# Altium schematic symbol library Yageo.SchLib: 231 symbols (part 1 of 3)
Pins are listed as number, name and electrical type; pins without a type are passive.

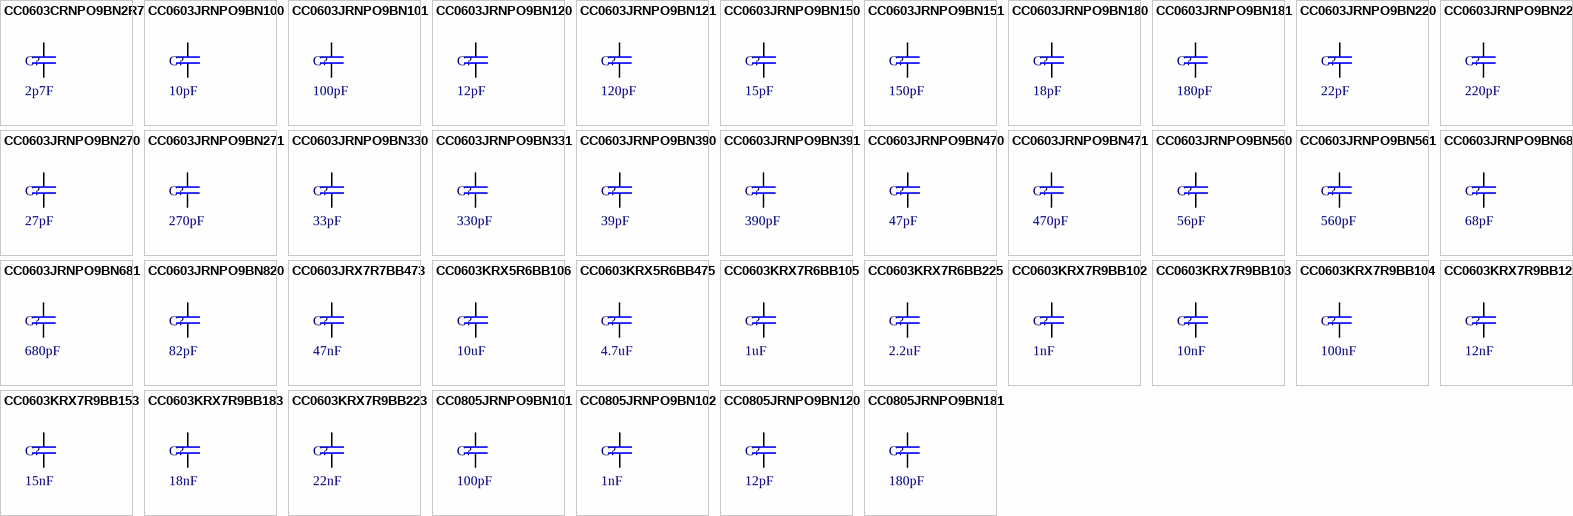
[diagram p0: symbols CC0603CRNPO9BN2R7 to CC0805JRNPO9BN181]

## CC0603CRNPO9BN2R7
designator C?, comment 2p7F
CAP 2.7pF (2p7F) SM0603 NPO 50V YAGEO CC2; Manufacturer Part Number: CC0603CRNPO9BN2R7; Tolerance (%): 10; Voltage Rating (Volts): 50; Category: Capacitor; Manufacturer: Yageo; Package: 0603; Value: 2p7F; Supplier Part Number 1: 721890; Supplier 1: Farnell; ComponentLink1URL: http://www.yageo.com; ComponentLink1Description: Manufacturer Website; Supplier 2: Digi-Key
footprint CAP_SM0603_YAGEOCC2_N (Capacitor, Yageo CC Class2, SM0603, IPC Medium Density)
pins: 1, 2

## CC0603JRNPO9BN100
designator C?, comment 10pF
CAP 10pF SM0603 NPO 50V YAGEO CC2; Manufacturer Part Number: CC0603JRNPO9BN100; Tolerance (%): 5; Voltage Rating (Volts): 50; Category: Capacitor; Manufacturer: Yageo; Package: 0603; Value: 10pF; Supplier Part Number 1: 721967; Supplier 1: Farnell; ComponentLink1URL: http://www.yageo.com; ComponentLink1Description: Manufacturer Website; Supplier 2: Digi-Key; Supplier Part Number 2: 311-1058-1-ND
footprint CAP_SM0603_YAGEOCC2_N (Capacitor, Yageo CC Class2, SM0603, IPC Medium Density)
pins: 1, 2

## CC0603JRNPO9BN101
designator C?, comment 100pF
CAP 100pF SM0603 NPO 50V YAGEO CC2; Manufacturer Part Number: CC0603JRNPO9BN101; Tolerance (%): 5; Voltage Rating (Volts): 50; Category: Capacitor; Manufacturer: Yageo; Package: 0603; Value: 100pF; Supplier Part Number 1: 722080; Supplier 1: Farnell; ComponentLink1URL: http://www.yageo.com; ComponentLink1Description: Manufacturer Website; Supplier 2: Digi-Key; Supplier Part Number 2: 311-1069-1-ND
footprint CAP_SM0603_YAGEOCC2_N (Capacitor, Yageo CC Class2, SM0603, IPC Medium Density)
pins: 1, 2

## CC0603JRNPO9BN120
designator C?, comment 12pF
CAP 12pF SM0603 NPO 50V YAGEO CC2; Manufacturer Part Number: CC0603JRNPO9BN120; Tolerance (%): 5; Voltage Rating (Volts): 50; Category: Capacitor; Manufacturer: Yageo; Package: 0603; Value: 12pF; Supplier Part Number 1: 721979; Supplier 1: Farnell; ComponentLink1URL: http://www.yageo.com; ComponentLink1Description: Manufacturer Website; Supplier 2: Digi-Key; Supplier Part Number 2: 311-1059-1-ND; Datasheet: https://datasheet.lcsc.com/lcsc/2304140030_YAGEO-CC0603JRNPO9BN120_C107034.pdf
footprint CAP_SM0603_YAGEOCC2_N (Capacitor, Yageo CC Class2, SM0603, IPC Medium Density)
pins: 1, 2

## CC0603JRNPO9BN121
designator C?, comment 120pF
CAP 120pF SM0603 NPO 50V YAGEO CC2; Manufacturer Part Number: CC0603JRNPO9BN121; Tolerance (%): 5; Voltage Rating (Volts): 50; Category: Capacitor; Manufacturer: Yageo; Package: 0603; Value: 120pF; Supplier Part Number 1: 722091; Supplier 1: Farnell; ComponentLink1URL: http://www.yageo.com; ComponentLink1Description: Manufacturer Website; Supplier 2: Digi-Key; Supplier Part Number 2: 311-1070-1-ND
footprint CAP_SM0603_YAGEOCC2_N (Capacitor, Yageo CC Class2, SM0603, IPC Medium Density)
pins: 1, 2

## CC0603JRNPO9BN150
designator C?, comment 15pF
CAP 15pF SM0603 NPO 50V YAGEO CC2; Manufacturer Part Number: CC0603JRNPO9BN150; Tolerance (%): 5; Voltage Rating (Volts): 50; Category: Capacitor; Manufacturer: Yageo; Package: 0603; Value: 15pF; Supplier Part Number 1: 721980; Supplier 1: Farnell; ComponentLink1URL: http://www.yageo.com; ComponentLink1Description: Manufacturer Website; Supplier 2: Digi-Key; Supplier Part Number 2: 311-1060-1-ND
footprint CAP_SM0603_YAGEOCC2_N (Capacitor, Yageo CC Class2, SM0603, IPC Medium Density)
pins: 1, 2

## CC0603JRNPO9BN151
designator C?, comment 150pF
CAP 150pF SM0603 NPO 50V YAGEO CC2; Manufacturer Part Number: CC0603JRNPO9BN151; Tolerance (%): 5; Voltage Rating (Volts): 50; Category: Capacitor; Manufacturer: Yageo; Package: 0603; Value: 150pF; Supplier Part Number 1: 722108; Supplier 1: Farnell; ComponentLink1URL: http://www.yageo.com; ComponentLink1Description: Manufacturer Website; Supplier 2: Digi-Key; Supplier Part Number 2: 311-1071-1-ND
footprint CAP_SM0603_YAGEOCC2_N (Capacitor, Yageo CC Class2, SM0603, IPC Medium Density)
pins: 1, 2

## CC0603JRNPO9BN180
designator C?, comment 18pF
CAP 18pF SM0603 NPO 50V YAGEO CC2; Manufacturer Part Number: CC0603JRNPO9BN180; Tolerance (%): 5; Voltage Rating (Volts): 50; Category: Capacitor; Manufacturer: Yageo; Package: 0603; Value: 18pF; Supplier Part Number 1: 721992; Supplier 1: Farnell; ComponentLink1URL: http://www.yageo.com; ComponentLink1Description: Manufacturer Website; Supplier 2: Digi-Key; Supplier Part Number 2: 311-1061-1-ND
footprint CAP_SM0603_YAGEOCC2_N (Capacitor, Yageo CC Class2, SM0603, IPC Medium Density)
pins: 1, 2

## CC0603JRNPO9BN181
designator C?, comment 180pF
CAP 180pF SM0603 NPO 50V YAGEO CC2; Manufacturer Part Number: CC0603JRNPO9BN181; Tolerance (%): 5; Voltage Rating (Volts): 50; Category: Capacitor; Manufacturer: Yageo; Package: 0603; Value: 180pF; Supplier Part Number 1: 3019494; Supplier 1: Farnell; ComponentLink1URL: http://www.yageo.com; ComponentLink1Description: Manufacturer Website; Supplier 2: Digi-Key; Supplier Part Number 2: 311-1072-1-ND
footprint CAP_SM0603_YAGEOCC2_N (Capacitor, Yageo CC Class2, SM0603, IPC Medium Density)
pins: 1, 2

## CC0603JRNPO9BN220
designator C?, comment 22pF
CAP 22pF SM0603 NPO 50V YAGEO CC2; Manufacturer Part Number: CC0603JRNPO9BN220; Tolerance (%): 5; Voltage Rating (Volts): 50; Category: Capacitor; Manufacturer: Yageo; Package: 0603; Value: 22pF; Supplier Part Number 1: 722005; Supplier 1: Farnell; ComponentLink1URL: http://www.yageo.com; ComponentLink1Description: Manufacturer Website; Supplier 2: Digi-Key; Supplier Part Number 2: 311-1062-1-ND
footprint CAP_SM0603_YAGEOCC2_N (Capacitor, Yageo CC Class2, SM0603, IPC Medium Density)
pins: 1, 2

## CC0603JRNPO9BN221
designator C?, comment 220pF
CAP 220pF SM0603 NPO 50V YAGEO CC2; Manufacturer Part Number: CC0603JRNPO9BN221; Tolerance (%): 5; Voltage Rating (Volts): 50; Category: Capacitor; Manufacturer: Yageo; Package: 0603; Value: 220pF; Supplier Part Number 1: 430948; Supplier 1: Farnell; ComponentLink1URL: http://www.yageo.com; ComponentLink1Description: Manufacturer Website; Supplier 2: Digi-Key; Supplier Part Number 2: 311-1073-1-ND
footprint CAP_SM0603_YAGEOCC2_N (Capacitor, Yageo CC Class2, SM0603, IPC Medium Density)
pins: 1, 2

## CC0603JRNPO9BN270
designator C?, comment 27pF
CAP 27pF SM0603 NPO 50V YAGEO CC2; Manufacturer Part Number: CC0603JRNPO9BN270; Tolerance (%): 5; Voltage Rating (Volts): 50; Category: Capacitor; Manufacturer: Yageo; Package: 0603; Value: 27pF; Supplier Part Number 1: 722017; Supplier 1: Farnell; ComponentLink1URL: http://www.yageo.com; ComponentLink1Description: Manufacturer Website; Supplier 2: Digi-Key; Supplier Part Number 2: 311-1063-1-ND
footprint CAP_SM0603_YAGEOCC2_N (Capacitor, Yageo CC Class2, SM0603, IPC Medium Density)
pins: 1, 2

## CC0603JRNPO9BN271
designator C?, comment 270pF
CAP 270pF SM0603 NPO 50V YAGEO CC2; Manufacturer Part Number: CC0603JRNPO9BN271; Tolerance (%): 5; Voltage Rating (Volts): 50; Category: Capacitor; Manufacturer: Yageo; Package: 0603; Value: 270pF; Supplier Part Number 1: 3019500; Supplier 1: Farnell; ComponentLink1URL: http://www.yageo.com; ComponentLink1Description: Manufacturer Website; Supplier 2: Digi-Key; Supplier Part Number 2: 311-1074-1-ND
footprint CAP_SM0603_YAGEOCC2_N (Capacitor, Yageo CC Class2, SM0603, IPC Medium Density)
pins: 1, 2

## CC0603JRNPO9BN330
designator C?, comment 33pF
CAP 33pF SM0603 NPO 50V YAGEO CC2; Manufacturer Part Number: CC0603JRNPO9BN330; Tolerance (%): 5; Voltage Rating (Volts): 50; Category: Capacitor; Manufacturer: Yageo; Package: 0603; Value: 33pF; Supplier Part Number 1: 722029; Supplier 1: Farnell; ComponentLink1URL: http://www.yageo.com; ComponentLink1Description: Manufacturer Website; Supplier 2: Digi-Key; Supplier Part Number 2: 311-1064-1-ND
footprint CAP_SM0603_YAGEOCC2_N (Capacitor, Yageo CC Class2, SM0603, IPC Medium Density)
pins: 1, 2

## CC0603JRNPO9BN331
designator C?, comment 330pF
CAP 330pF SM0603 NPO 50V YAGEO CC2; Manufacturer Part Number: CC0603JRNPO9BN331; Tolerance (%): 5; Voltage Rating (Volts): 50; Category: Capacitor; Manufacturer: Yageo; Package: 0603; Value: 330pF; Supplier Part Number 1: 430973; Supplier 1: Farnell; ComponentLink1URL: http://www.yageo.com; ComponentLink1Description: Manufacturer Website; Supplier 2: Digi-Key; Supplier Part Number 2: 311-1075-1-ND
footprint CAP_SM0603_YAGEOCC2_N (Capacitor, Yageo CC Class2, SM0603, IPC Medium Density)
pins: 1, 2

## CC0603JRNPO9BN390
designator C?, comment 39pF
CAP 39pF SM0603 NPO 50V YAGEO CC2; Manufacturer Part Number: CC0603JRNPO9BN390; Tolerance (%): 5; Voltage Rating (Volts): 50; Category: Capacitor; Manufacturer: Yageo; Package: 0603; Value: 39pF; Supplier Part Number 1: 722030; Supplier 1: Farnell; ComponentLink1URL: http://www.yageo.com; ComponentLink1Description: Manufacturer Website; Supplier 2: Digi-Key
footprint CAP_SM0603_YAGEOCC2_N (Capacitor, Yageo CC Class2, SM0603, IPC Medium Density)
pins: 1, 2

## CC0603JRNPO9BN391
designator C?, comment 390pF
CAP 390pF SM0603 NPO 50V YAGEO CC2; Manufacturer Part Number: CC0603JRNPO9BN391; Tolerance (%): 5; Voltage Rating (Volts): 50; Category: Capacitor; Manufacturer: Yageo; Package: 0603; Value: 390pF; Supplier Part Number 1: 3019512; Supplier 1: Farnell; ComponentLink1URL: http://www.yageo.com; ComponentLink1Description: Manufacturer Website; Supplier 2: Digi-Key; Supplier Part Number 2: 311-1076-1-ND
footprint CAP_SM0603_YAGEOCC2_N (Capacitor, Yageo CC Class2, SM0603, IPC Medium Density)
pins: 1, 2

## CC0603JRNPO9BN470
designator C?, comment 47pF
CAP 47pF SM0603 NPO 50V YAGEO CC2; Manufacturer Part Number: CC0603JRNPO9BN470; Tolerance (%): 5; Voltage Rating (Volts): 50; Category: Capacitor; Manufacturer: Yageo; Package: 0603; Value: 47pF; Supplier Part Number 1: 722042; Supplier 1: Farnell; ComponentLink1URL: http://www.yageo.com; ComponentLink1Description: Manufacturer Website; Supplier 2: Digi-Key; Supplier Part Number 2: 311-1065-1-ND
footprint CAP_SM0603_YAGEOCC2_N (Capacitor, Yageo CC Class2, SM0603, IPC Medium Density)
pins: 1, 2

## CC0603JRNPO9BN471
designator C?, comment 470pF
CAP 470pF SM0603 NPO 50V YAGEO CC2; Manufacturer Part Number: CC0603JRNPO9BN471; Tolerance (%): 5; Voltage Rating (Volts): 50; Category: Capacitor; Manufacturer: Yageo; Package: 0603; Value: 470pF; Supplier Part Number 1: 430985; Supplier 1: Farnell; ComponentLink1URL: http://www.yageo.com; ComponentLink1Description: Manufacturer Website; Supplier 2: Digi-Key; Supplier Part Number 2: 311-1520-1-ND
footprint CAP_SM0603_YAGEOCC2_N (Capacitor, Yageo CC Class2, SM0603, IPC Medium Density)
pins: 1, 2

## CC0603JRNPO9BN560
designator C?, comment 56pF
CAP 56pF SM0603 NPO 50V YAGEO CC2; Manufacturer Part Number: CC0603JRNPO9BN560; Tolerance (%): 5; Voltage Rating (Volts): 50; Category: Capacitor; Manufacturer: Yageo; Package: 0603; Value: 56pF; Supplier Part Number 1: 722054; Supplier 1: Farnell; ComponentLink1URL: http://www.yageo.com; ComponentLink1Description: Manufacturer Website; Supplier 2: Digi-Key; Supplier Part Number 2: 311-1066-1-ND
footprint CAP_SM0603_YAGEOCC2_N (Capacitor, Yageo CC Class2, SM0603, IPC Medium Density)
pins: 1, 2

## CC0603JRNPO9BN561
designator C?, comment 560pF
CAP 560pF SM0603 NPO 50V YAGEO CC2; Manufacturer Part Number: CC0603JRNPO9BN561; Tolerance (%): 5; Voltage Rating (Volts): 50; Category: Capacitor; Manufacturer: Yageo; Package: 0603; Value: 560pF; Supplier Part Number 1: 3019524; Supplier 1: Farnell; ComponentLink1URL: http://www.yageo.com; ComponentLink1Description: Manufacturer Website; Supplier 2: Digi-Key
footprint CAP_SM0603_YAGEOCC2_N (Capacitor, Yageo CC Class2, SM0603, IPC Medium Density)
pins: 1, 2

## CC0603JRNPO9BN680
designator C?, comment 68pF
CAP 68pF SM0603 NPO 50V YAGEO CC2; Manufacturer Part Number: CC0603JRNPO9BN680; Tolerance (%): 5; Voltage Rating (Volts): 50; Category: Capacitor; Manufacturer: Yageo; Package: 0603; Value: 68pF; Supplier Part Number 1: 722066; Supplier 1: Farnell; ComponentLink1URL: http://www.yageo.com; ComponentLink1Description: Manufacturer Website; Supplier 2: Digi-Key; Supplier Part Number 2: 311-1067-1-ND
footprint CAP_SM0603_YAGEOCC2_N (Capacitor, Yageo CC Class2, SM0603, IPC Medium Density)
pins: 1, 2

## CC0603JRNPO9BN681
designator C?, comment 680pF
CAP 680pF SM0603 NPO 50V YAGEO CC2; Manufacturer Part Number: CC0603JRNPO9BN681; Tolerance (%): 5; Voltage Rating (Volts): 50; Category: Capacitor; Manufacturer: Yageo; Package: 0603; Value: 680pF; Supplier Part Number 1: 430997; Supplier 1: Farnell; ComponentLink1URL: http://www.yageo.com; ComponentLink1Description: Manufacturer Website; Supplier 2: Digi-Key; Supplier Part Number 2: 311-1425-1-ND
footprint CAP_SM0603_YAGEOCC2_N (Capacitor, Yageo CC Class2, SM0603, IPC Medium Density)
pins: 1, 2

## CC0603JRNPO9BN820
designator C?, comment 82pF
CAP 82pF SM0603 NPO 50V YAGEO CC2; Manufacturer Part Number: CC0603JRNPO9BN820; Tolerance (%): 5; Voltage Rating (Volts): 50; Category: Capacitor; Manufacturer: Yageo; Package: 0603; Value: 82pF; Supplier Part Number 1: 722078; Supplier 1: Farnell; ComponentLink1URL: http://www.yageo.com; ComponentLink1Description: Manufacturer Website; Supplier 2: Digi-Key; Supplier Part Number 2: 311-1068-1-ND
footprint CAP_SM0603_YAGEOCC2_N (Capacitor, Yageo CC Class2, SM0603, IPC Medium Density)
pins: 1, 2

## CC0603JRX7R7BB473
designator C?, comment 47nF
CAP 47nF SM0603 X7R 16V YAGEO; Manufacturer Part Number: CC0603JRX7R7BB473; Tolerance: 5; Category: Capacitor; Manufacturer: Yageo; Package: 0603; Value: 47nF; ComponentLink1Description: Manufacturer Website; ComponentLink1URL: http://www.yageo.com
footprint CAP_SM0603_YAGEOCC2_N (Capacitor, Yageo CC Class2, SM0603, IPC Medium Density)
pins: 1, 2

## CC0603KRX5R6BB106
designator C?, comment 10uF
CAP 10uF SM0603 X5R 10V YAGEO; Manufacturer Part Number: CC0603KRX5R6BB106; Tolerance: 10; Category: Capacitor; Manufacturer: Yageo; Package: 0603; Value: 10uF; ComponentLink1Description: Manufacturer Website; ComponentLink1URL: http://www.yageo.com
footprint CAP_SM0603_YAGEOCC2_N (Capacitor, Yageo CC Class2, SM0603, IPC Medium Density)
pins: 1, 2

## CC0603KRX5R6BB475
designator C?, comment 4.7uF
CAP 4.7uF SM0603 X7R 16V YAGEO; Manufacturer Part Number: CC0603JRX7R7BB473; Tolerance: 10; Category: Capacitor; Manufacturer: Yageo; Package: 0603; Value: 4.7uF; ComponentLink1Description: Manufacturer Website; ComponentLink1URL: http://www.yageo.com
footprint CAP_SM0603_YAGEOCC2_N (Capacitor, Yageo CC Class2, SM0603, IPC Medium Density)
pins: 1, 2

## CC0603KRX7R6BB105
designator C?, comment 1uF
CAP 1uF SM0603 X7R 10V YAGEO CC2; Manufacturer Part Number: CC0603KRX7R6BB105; Tolerance (%): 5; Voltage Rating (Volts): 50; Category: Capacitor; Manufacturer: Yageo; Package: 0603; Value: 1uF; ComponentLink1URL: http://www.yageo.com; ComponentLink1Description: Manufacturer Website; Datasheet: https://datasheet.lcsc.com/lcsc/2304140030_YAGEO-CC0603KRX7R6BB105_C113807.pdf
footprint CAP_SM0603_YAGEOCC2_N (Capacitor, Yageo CC Class2, SM0603, IPC Medium Density)
pins: 1, 2

## CC0603KRX7R6BB225
designator C?, comment 2.2uF
CAP 2.2uF (2u2F) SM0603 X7R 10V YAGEO CC2; Manufacturer Part Number: CC0603KRX7R6BB225; Tolerance (%): 10; Category: Capacitor; Manufacturer: Yageo; Package: 0603; Value: 2.2uF; ComponentLink1URL: http://www.yageo.com; ComponentLink1Description: Manufacturer Website; Voltage Rating (Volts): 10; Datasheet: https://datasheet.lcsc.com/lcsc/2004231434_YAGEO-CC0603KRX7R6BB225_C513691.pdf
footprint CAP_SM0603_YAGEOCC2_N (Capacitor, Yageo CC Class2, SM0603, IPC Medium Density)
pins: 1, 2

## CC0603KRX7R9BB102
designator C?, comment 1nF
CAP 1nF SM0603 X7R 50V YAGEO CC2; Manufacturer Part Number: CC0603KRX7R9BB102; Tolerance (%): 10; Voltage Rating (Volts): 50; Category: Capacitor; Manufacturer: Yageo; Package: 0603; Value: 1nF; Supplier Part Number 1: 722170; Supplier 1: Farnell; ComponentLink1URL: http://www.yageo.com; ComponentLink1Description: Manufacturer Website; Supplier 2: Digi-Key; Supplier Part Number 2: 311-1080-1-ND
footprint CAP_SM0603_YAGEOCC2_N (Capacitor, Yageo CC Class2, SM0603, IPC Medium Density)
pins: 1, 2

## CC0603KRX7R9BB103
designator C?, comment 10nF
CAP 10nF SM0603 X7R 50V YAGEO CC2; Manufacturer Part Number: CC0603KRX7R9BB103; Tolerance (%): 10; Voltage Rating (Volts): 50; Category: Capacitor; Manufacturer: Yageo; Package: 0603; Value: 10nF; Supplier Part Number 1: 722236; Supplier 1: Farnell; ComponentLink1URL: http://www.yageo.com; ComponentLink1Description: Manufacturer Website; Supplier 2: Digi-Key; Supplier Part Number 2: 311-1085-1-ND
footprint CAP_SM0603_YAGEOCC2_N (Capacitor, Yageo CC Class2, SM0603, IPC Medium Density)
pins: 1, 2

## CC0603KRX7R9BB104
designator C?, comment 100nF
CAP 100nF SM0603 X7R 50V YAGEO CC2; Manufacturer Part Number: CC0603KRX7R9BB104; Tolerance (%): 10; Voltage Rating (Volts): 50; Category: Capacitor; Manufacturer: Yageo; Package: 0603; Value: 100nF; Supplier Part Number 1: 1362556; Supplier 1: Farnell; ComponentLink1URL: http://www.yageo.com; ComponentLink1Description: Manufacturer Website; Supplier 2: Digi-Key; Supplier Part Number 2: 311-1344-1-ND; Datasheet: https://datasheet.lcsc.com/lcsc/2211101700_YAGEO-CC0603KRX7R9BB104_C14663.pdf
footprint CAP_SM0603_YAGEOCC2_N (Capacitor, Yageo CC Class2, SM0603, IPC Medium Density)
pins: 1, 2

## CC0603KRX7R9BB123
designator C?, comment 12nF
CAP 12nF SM0603 X7R 50V YAGEO CC2; Manufacturer Part Number: CC0603KRX7R9BB123; Tolerance (%): 10; Voltage Rating (Volts): 50; Category: Capacitor; Manufacturer: Yageo; Package: 0603; Value: 12nF; Supplier Part Number 1: 3019720; Supplier 1: Farnell; ComponentLink1URL: http://www.yageo.com; ComponentLink1Description: Manufacturer Website; Supplier 2: Digi-Key
footprint CAP_SM0603_YAGEOCC2_N (Capacitor, Yageo CC Class2, SM0603, IPC Medium Density)
pins: 1, 2

## CC0603KRX7R9BB153
designator C?, comment 15nF
CAP 15nF SM0603 X7R 50V YAGEO CC2; Manufacturer Part Number: CC0603KRX7R9BB153; Tolerance (%): 10; Voltage Rating (Volts): 50; Category: Capacitor; Manufacturer: Yageo; Package: 0603; Value: 15nF; Supplier Part Number 1: 3019731; Supplier 1: Farnell; ComponentLink1URL: http://www.yageo.com; ComponentLink1Description: Manufacturer Website; Supplier 2: Digi-Key; Supplier Part Number 2: 311-1430-1-ND
footprint CAP_SM0603_YAGEOCC2_N (Capacitor, Yageo CC Class2, SM0603, IPC Medium Density)
pins: 1, 2

## CC0603KRX7R9BB183
designator C?, comment 18nF
CAP 18nF SM0603 X7R 50V YAGEO CC2; Manufacturer Part Number: CC0603KRX7R9BB183; Tolerance (%): 10; Voltage Rating (Volts): 50; Category: Capacitor; Manufacturer: Yageo; Package: 0603; Value: 18nF; Supplier Part Number 1: 3019743; Supplier 1: Farnell; ComponentLink1URL: http://www.yageo.com; ComponentLink1Description: Manufacturer Website; Supplier 2: Digi-Key
footprint CAP_SM0603_YAGEOCC2_N (Capacitor, Yageo CC Class2, SM0603, IPC Medium Density)
pins: 1, 2

## CC0603KRX7R9BB223
designator C?, comment 22nF
CAP 22nF SM0603 X7R 50V YAGEO CC2; Manufacturer Part Number: CC0603KRX7R9BB223; Tolerance (%): 10; Voltage Rating (Volts): 50; Category: Capacitor; Manufacturer: Yageo; Package: 0603; Value: 22nF; Supplier Part Number 1: 3019755; Supplier 1: Farnell; ComponentLink1URL: http://www.yageo.com; ComponentLink1Description: Manufacturer Website; Supplier 2: Digi-Key; Supplier Part Number 2: 311-1370-1-ND
footprint CAP_SM0603_YAGEOCC2_N (Capacitor, Yageo CC Class2, SM0603, IPC Medium Density)
pins: 1, 2

## CC0805JRNPO9BN101
designator C?, comment 100pF
CAP 100pF SM0805 NPO 50V YAGEO CC2; Manufacturer Part Number: CC0805JRNPO9BN101; Tolerance (%): 5; Voltage Rating (Volts): 50; Category: Capacitor; Manufacturer: Yageo; Package: 0805; Value: 100pF; Supplier Part Number 1: 3606028; Supplier 1: Farnell; ComponentLink1URL: http://www.yageo.com; ComponentLink1Description: Manufacturer Website; Supplier 2: Digi-Key; Supplier Part Number 2: 311-1111-1-ND
footprint CAP_SM0805_YAGEOCC2_N (Capacitor, Yageo CC Class2, SM0805, IPC Medium Density)
pins: 1, 2

## CC0805JRNPO9BN102
designator C?, comment 1nF
CAP 1nF SM0805 NPO 50V YAGEO CC2; Manufacturer Part Number: CC0805JRNPO9BN102; Tolerance (%): 5; Voltage Rating (Volts): 50; Category: Capacitor; Manufacturer: Yageo; Package: 0805; Value: 1nF; Supplier Part Number 1: 718567; Supplier 1: Farnell; ComponentLink1URL: http://www.yageo.com; ComponentLink1Description: Manufacturer Website; Supplier 2: Digi-Key; Supplier Part Number 2: 311-1122-1-ND
footprint CAP_SM0805_YAGEOCC2_N (Capacitor, Yageo CC Class2, SM0805, IPC Medium Density)
pins: 1, 2

## CC0805JRNPO9BN120
designator C?, comment 12pF
CAP 12pF SM0805 NPO 50V YAGEO CC2; Manufacturer Part Number: CC0805JRNPO9BN120; Tolerance (%): 5; Voltage Rating (Volts): 50; Category: Capacitor; Manufacturer: Yageo; Package: 0805; Value: 12pF; ComponentLink1URL: http://www.yageo.com; ComponentLink1Description: Manufacturer Website
footprint CAP_SM0805_YAGEOCC2_N (Capacitor, Yageo CC Class2, SM0805, IPC Medium Density)
pins: 1, 2

## CC0805JRNPO9BN181
designator C?, comment 180pF
CAP 180pF SM0805 NPO 50V YAGEO CC2; Manufacturer Part Number: CC0805JRNPO9BN181; Tolerance (%): 5; Voltage Rating (Volts): 50; Category: Capacitor; Manufacturer: Yageo; Package: 0805; Value: 180pF; Supplier Part Number 1: 718476; Supplier 1: Farnell; ComponentLink1URL: http://www.yageo.com; ComponentLink1Description: Manufacturer Website; Supplier 2: Digi-Key; Supplier Part Number 2: 311-1114-1-ND
footprint CAP_SM0805_YAGEOCC2_N (Capacitor, Yageo CC Class2, SM0805, IPC Medium Density)
pins: 1, 2

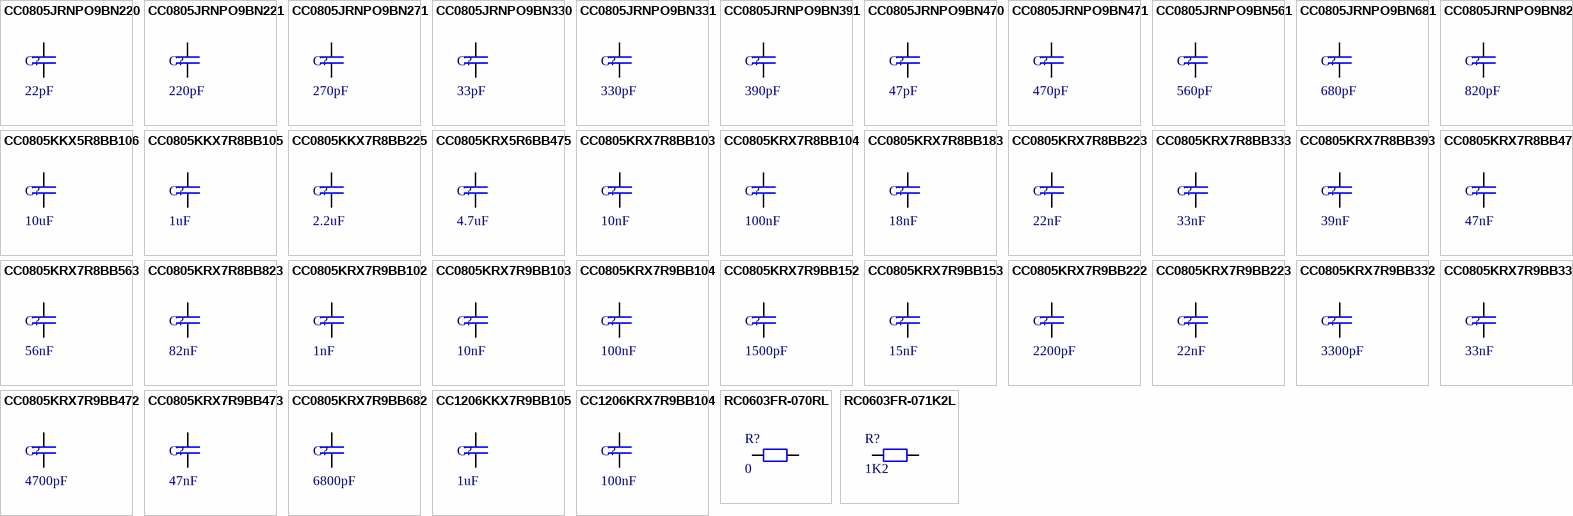
[diagram p1: symbols CC0805JRNPO9BN220 to RC0603FR-071K2L]

## CC0805JRNPO9BN220
designator C?, comment 22pF
CAP 22pF SM0805 NPO 50V YAGEO CC2; Manufacturer Part Number: CC0805JRNPO9BN220; Tolerance (%): 5; Voltage Rating (Volts): 50; Category: Capacitor; Manufacturer: Yageo; Package: 0805; Value: 22pF; Supplier Part Number 1: 1362555; Supplier 1: Farnell; ComponentLink1URL: http://www.yageo.com; ComponentLink1Description: Manufacturer Website; Supplier 2: Digi-Key; Supplier Part Number 2: 311-1103-1-ND
footprint CAP_SM0805_YAGEOCC2_N (Capacitor, Yageo CC Class2, SM0805, IPC Medium Density)
pins: 1, 2

## CC0805JRNPO9BN221
designator C?, comment 220pF
CAP 220pF SM0805 NPO 50V YAGEO CC2; Manufacturer Part Number: CC0805JRNPO9BN221; Tolerance (%): 5; Voltage Rating (Volts): 50; Category: Capacitor; Manufacturer: Yageo; Package: 0805; Value: 220pF; Supplier Part Number 1: 718488; Supplier 1: Farnell; ComponentLink1URL: http://www.yageo.com; ComponentLink1Description: Manufacturer Website; Supplier 2: Digi-Key; Supplier Part Number 2: 311-1115-1-ND
footprint CAP_SM0805_YAGEOCC2_N (Capacitor, Yageo CC Class2, SM0805, IPC Medium Density)
pins: 1, 2

## CC0805JRNPO9BN271
designator C?, comment 270pF
CAP 270pF SM0805 NPO 50V YAGEO CC2; Manufacturer Part Number: CC0805JRNPO9BN271; Tolerance (%): 5; Voltage Rating (Volts): 50; Category: Capacitor; Manufacturer: Yageo; Package: 0805; Value: 270pF; Supplier Part Number 1: 718490; Supplier 1: Farnell; ComponentLink1URL: http://www.yageo.com; ComponentLink1Description: Manufacturer Website; Supplier 2: Digi-Key; Supplier Part Number 2: 311-1116-1-ND
footprint CAP_SM0805_YAGEOCC2_N (Capacitor, Yageo CC Class2, SM0805, IPC Medium Density)
pins: 1, 2

## CC0805JRNPO9BN330
designator C?, comment 33pF
CAP 33pF SM0805 NPO 50V YAGEO CC2; Manufacturer Part Number: CC0805JRNPO9BN330; Tolerance (%): 5; Voltage Rating (Volts): 50; Category: Capacitor; Manufacturer: Yageo; Package: 0805; Value: 33pF; Supplier Part Number 1: 1362559; Supplier 1: Farnell; ComponentLink1URL: http://www.yageo.com; ComponentLink1Description: Manufacturer Website; Supplier 2: Digi-Key; Supplier Part Number 2: 311-1105-1-ND; Datasheet: https://datasheet.lcsc.com/lcsc/2304140030_YAGEO-CC0805JRNPO9BN330_C107115.pdf
footprint CAP_SM0805_YAGEOCC2_N (Capacitor, Yageo CC Class2, SM0805, IPC Medium Density)
pins: 1, 2

## CC0805JRNPO9BN331
designator C?, comment 330pF
CAP 330pF SM0805 NPO 50V YAGEO CC2; Manufacturer Part Number: CC0805JRNPO9BN331; Tolerance (%): 5; Voltage Rating (Volts): 50; Category: Capacitor; Manufacturer: Yageo; Package: 0805; Value: 330pF; Supplier Part Number 1: 718506; Supplier 1: Farnell; ComponentLink1URL: http://www.yageo.com; ComponentLink1Description: Manufacturer Website; Supplier 2: Digi-Key; Supplier Part Number 2: 311-1117-1-ND
footprint CAP_SM0805_YAGEOCC2_N (Capacitor, Yageo CC Class2, SM0805, IPC Medium Density)
pins: 1, 2

## CC0805JRNPO9BN391
designator C?, comment 390pF
CAP 390pF SM0805 NPO 50V YAGEO CC2; Manufacturer Part Number: CC0805JRNPO9BN391; Tolerance (%): 5; Voltage Rating (Volts): 50; Category: Capacitor; Manufacturer: Yageo; Package: 0805; Value: 390pF; Supplier Part Number 1: 718518; Supplier 1: Farnell; ComponentLink1URL: http://www.yageo.com; ComponentLink1Description: Manufacturer Website; Supplier 2: Digi-Key; Supplier Part Number 2: 311-1118-1-ND
footprint CAP_SM0805_YAGEOCC2_N (Capacitor, Yageo CC Class2, SM0805, IPC Medium Density)
pins: 1, 2

## CC0805JRNPO9BN470
designator C?, comment 47pF
CAP 47pF SM0805 NPO 50V YAGEO CC2; Manufacturer Part Number: CC0805JRNPO9BN470; Tolerance (%): 5; Voltage Rating (Volts): 50; Category: Capacitor; Manufacturer: Yageo; Package: 0805; Value: 47pF; Supplier Part Number 1: 1362560; Supplier 1: Farnell; ComponentLink1URL: http://www.yageo.com; ComponentLink1Description: Manufacturer Website; Supplier 2: Digi-Key; Supplier Part Number 2: 311-1107-1-ND
footprint CAP_SM0805_YAGEOCC2_N (Capacitor, Yageo CC Class2, SM0805, IPC Medium Density)
pins: 1, 2

## CC0805JRNPO9BN471
designator C?, comment 470pF
CAP 470pF SM0805 NPO 50V YAGEO CC2; Manufacturer Part Number: CC0805JRNPO9BN471; Tolerance (%): 5; Voltage Rating (Volts): 50; Category: Capacitor; Manufacturer: Yageo; Package: 0805; Value: 470pF; Supplier Part Number 1: 718520; Supplier 1: Farnell; ComponentLink1URL: http://www.yageo.com; ComponentLink1Description: Manufacturer Website; Supplier 2: Digi-Key; Supplier Part Number 2: 311-1119-1-ND
footprint CAP_SM0805_YAGEOCC2_N (Capacitor, Yageo CC Class2, SM0805, IPC Medium Density)
pins: 1, 2

## CC0805JRNPO9BN561
designator C?, comment 560pF
CAP 560pF SM0805 NPO 50V YAGEO CC2; Manufacturer Part Number: CC0805JRNPO9BN561; Tolerance (%): 5; Voltage Rating (Volts): 50; Category: Capacitor; Manufacturer: Yageo; Package: 0805; Value: 560pF; Supplier Part Number 1: 718531; Supplier 1: Farnell; ComponentLink1URL: http://www.yageo.com; ComponentLink1Description: Manufacturer Website; Supplier 2: Digi-Key; Supplier Part Number 2: 311-1120-1-ND
footprint CAP_SM0805_YAGEOCC2_N (Capacitor, Yageo CC Class2, SM0805, IPC Medium Density)
pins: 1, 2

## CC0805JRNPO9BN681
designator C?, comment 680pF
CAP 680pF SM0805 NPO 50V YAGEO CC2; Manufacturer Part Number: CC0805JRNPO9BN681; Tolerance (%): 5; Voltage Rating (Volts): 50; Category: Capacitor; Manufacturer: Yageo; Package: 0805; Value: 680pF; Supplier Part Number 1: 718543; Supplier 1: Farnell; ComponentLink1URL: http://www.yageo.com; ComponentLink1Description: Manufacturer Website; Supplier 2: Digi-Key; Supplier Part Number 2: 311-1121-1-ND
footprint CAP_SM0805_YAGEOCC2_N (Capacitor, Yageo CC Class2, SM0805, IPC Medium Density)
pins: 1, 2

## CC0805JRNPO9BN821
designator C?, comment 820pF
CAP 820pF SM0805 NPO 50V YAGEO CC2; Manufacturer Part Number: CC0805JRNPO9BN821; Tolerance (%): 5; Voltage Rating (Volts): 50; Category: Capacitor; Manufacturer: Yageo; Package: 0805; Value: 820pF; Supplier Part Number 1: 718555; Supplier 1: Farnell; ComponentLink1URL: http://www.yageo.com; ComponentLink1Description: Manufacturer Website; Supplier 2: Digi-Key
footprint CAP_SM0805_YAGEOCC2_N (Capacitor, Yageo CC Class2, SM0805, IPC Medium Density)
pins: 1, 2

## CC0805KKX5R8BB106
designator C?, comment 10uF
CAP 10uF SM0805 X5R 25V YAGEO; Manufacturer Part Number: CC0805KKX5R8BB106; Tolerance: 10; Category: Capacitor; Manufacturer: Yageo; Package: 0805; Value: 10uF; ComponentLink1Description: Manufacturer Website; ComponentLink1URL: http://www.yageo.com; Datasheet: https://datasheet.lcsc.com/lcsc/2304140030_YAGEO-CC0805KKX5R8BB106_C89831.pdf
footprint CAP_SM0805_YAGEOCC2_N (Capacitor, Yageo CC Class2, SM0805, IPC Medium Density)
pins: 1, 2

## CC0805KKX7R8BB105
designator C?, comment 1uF
CAP 1uF SM0805 X7R 25V YAGEO CC2; Manufacturer Part Number: CC0805KKX7R8BB105; Tolerance (%): 10; Voltage Rating (Volts): 25; Category: Capacitor; Manufacturer: Yageo; Package: 0805; Value: 1uF; Supplier Part Number 1: 1458903; Supplier 1: Farnell; ComponentLink1URL: http://www.yageo.com; ComponentLink1Description: Manufacturer Website; Supplier 2: Digi-Key; Supplier Part Number 2: 311-1456-1-ND; Datasheet: https://datasheet.lcsc.com/lcsc/2304140030_YAGEO-CC0805KKX7R8BB105_C91186.pdf
footprint CAP_SM0805_YAGEOCC2_N (Capacitor, Yageo CC Class2, SM0805, IPC Medium Density)
pins: 1, 2

## CC0805KKX7R8BB225
designator C?, comment 2.2uF
CAP 2u2F SM0805 X7R 25V YAGEO CC2; Manufacturer Part Number: CC0805KKX7R8BB225; Tolerance (%): 10; Voltage Rating (Volts): 25; Category: Capacitor; Manufacturer: Yageo; Package: 0805; Value: 2.2uF; Supplier Part Number 1: 1458904; Supplier 1: Farnell; ComponentLink1URL: http://www.yageo.com; ComponentLink1Description: Manufacturer Website; Supplier 2: Digi-Key
footprint CAP_SM0805_YAGEOCC2_N (Capacitor, Yageo CC Class2, SM0805, IPC Medium Density)
pins: 1, 2

## CC0805KRX5R6BB475
designator C?, comment 4.7uF
CAP 4.7uF SM0805 X5R 10V YAGEO CC2; Manufacturer Part Number: CC0805KRX5R6BB475; Tolerance (%): 10; Category: Capacitor; Manufacturer: Yageo; Package: 0805; Value: 4.7uF; Supplier Part Number 1: 718671; Supplier 1: Farnell; ComponentLink1URL: http://www.yageo.com; ComponentLink1Description: Manufacturer Website; Voltage Rating (Volts): 10; Supplier 2: Digi-Key; Supplier Part Number 2: 311-1374-1-ND; Datasheet: https://datasheet.lcsc.com/lcsc/2304140030_YAGEO-CC0805KRX5R6BB475_C605218.pdf
footprint CAP_SM0805_YAGEOCC2_N (Capacitor, Yageo CC Class2, SM0805, IPC Medium Density)
pins: 1, 2

## CC0805KRX7R8BB103
designator C?, comment 10nF
CAP 10nF SM0805 X7R 25V YAGEO CC2; Manufacturer Part Number: CC0805KRX7R8BB103; Tolerance (%): 10; Voltage Rating (Volts): 25; Category: Capacitor; Manufacturer: Yageo; Package: 0805; Value: 10nF; Supplier Part Number 1: 3019767; Supplier 1: Farnell; ComponentLink1URL: http://www.yageo.com; ComponentLink1Description: Manufacturer Website; Datasheet: https://datasheet.lcsc.com/lcsc/2006011835_YAGEO-CC0805KRX7R8BB103_C519911.pdf
footprint CAP_SM0805_YAGEOCC2_N (Capacitor, Yageo CC Class2, SM0805, IPC Medium Density)
pins: 1, 2

## CC0805KRX7R8BB104
designator C?, comment 100nF
CAP 100nF SM0805 X7R 25V YAGEO CC2; Manufacturer Part Number: CC0805KRX7R8BB104; Tolerance (%): 10; Voltage Rating (Volts): 25; Category: Capacitor; Manufacturer: Yageo; Package: 0805; Value: 100nF; Supplier Part Number 1: 644249; Supplier 1: Farnell; ComponentLink1URL: http://www.yageo.com; ComponentLink1Description: Manufacturer Website; Supplier 2: Digi-Key; Supplier Part Number 2: 311-1141-1-ND; Datasheet: https://datasheet.lcsc.com/lcsc/2006111832_YAGEO-CC0805KRX7R8BB104_C519981.pdf
footprint CAP_SM0805_YAGEOCC2_N (Capacitor, Yageo CC Class2, SM0805, IPC Medium Density)
pins: 1, 2

## CC0805KRX7R8BB183
designator C?, comment 18nF
CAP 18nF SM0805 X7R 25V YAGEO CC2; Manufacturer Part Number: CC0805KRX7R8BB183; Tolerance (%): 10; Voltage Rating (Volts): 25; Category: Capacitor; Manufacturer: Yageo; Package: 0805; Value: 18nF; Supplier Part Number 1: 3019792; Supplier 1: Farnell; ComponentLink1URL: http://www.yageo.com; ComponentLink1Description: Manufacturer Website; Supplier 2: Digi-Key
footprint CAP_SM0805_YAGEOCC2_N (Capacitor, Yageo CC Class2, SM0805, IPC Medium Density)
pins: 1, 2

## CC0805KRX7R8BB223
designator C?, comment 22nF
CAP 22nF SM0805 X7R 25V YAGEO CC2; Manufacturer Part Number: CC0805KRX7R8BB223; Tolerance (%): 10; Voltage Rating (Volts): 25; Category: Capacitor; Manufacturer: Yageo; Package: 0805; Value: 22nF; Supplier Part Number 1: 3019809; Supplier 1: Farnell; ComponentLink1URL: http://www.yageo.com; ComponentLink1Description: Manufacturer Website; Supplier 2: Digi-Key
footprint CAP_SM0805_YAGEOCC2_N (Capacitor, Yageo CC Class2, SM0805, IPC Medium Density)
pins: 1, 2

## CC0805KRX7R8BB333
designator C?, comment 33nF
CAP 33nF SM0805 X7R 25V YAGEO CC2; Manufacturer Part Number: CC0805KRX7R8BB333; Tolerance (%): 10; Voltage Rating (Volts): 25; Category: Capacitor; Manufacturer: Yageo; Package: 0805; Value: 33nF; Supplier Part Number 1: 3019822; Supplier 1: Farnell; ComponentLink1URL: http://www.yageo.com; ComponentLink1Description: Manufacturer Website; Supplier 2: Digi-Key
footprint CAP_SM0805_YAGEOCC2_N (Capacitor, Yageo CC Class2, SM0805, IPC Medium Density)
pins: 1, 2

## CC0805KRX7R8BB393
designator C?, comment 39nF
CAP 39nF SM0805 X7R 25V YAGEO CC2; Manufacturer Part Number: CC0805KRX7R8BB393; Tolerance (%): 10; Voltage Rating (Volts): 25; Category: Capacitor; Manufacturer: Yageo; Package: 0805; Value: 39nF; Supplier Part Number 1: 644195; Supplier 1: Farnell; ComponentLink1URL: http://www.yageo.com; ComponentLink1Description: Manufacturer Website; Supplier 2: Digi-Key
footprint CAP_SM0805_YAGEOCC2_N (Capacitor, Yageo CC Class2, SM0805, IPC Medium Density)
pins: 1, 2

## CC0805KRX7R8BB473
designator C?, comment 47nF
CAP 47nF SM0805 X7R 25V YAGEO CC2; Manufacturer Part Number: CC0805KRX7R8BB473; Tolerance (%): 10; Voltage Rating (Volts): 25; Category: Capacitor; Manufacturer: Yageo; Package: 0805; Value: 47nF; Supplier Part Number 1: 644201; Supplier 1: Farnell; ComponentLink1URL: http://www.yageo.com; ComponentLink1Description: Manufacturer Website; Supplier 2: Digi-Key; Datasheet: https://datasheet.lcsc.com/lcsc/2304140030_YAGEO-CC0805KRX7R8BB473_C309492.pdf
footprint CAP_SM0805_YAGEOCC2_N (Capacitor, Yageo CC Class2, SM0805, IPC Medium Density)
pins: 1, 2

## CC0805KRX7R8BB563
designator C?, comment 56nF
CAP 56nF SM0805 X7R 25V YAGEO CC2; Manufacturer Part Number: CC0805KRX7R8BB563; Tolerance (%): 10; Voltage Rating (Volts): 25; Category: Capacitor; Manufacturer: Yageo; Package: 0805; Value: 56nF; Supplier Part Number 1: 644213; Supplier 1: Farnell; ComponentLink1URL: http://www.yageo.com; ComponentLink1Description: Manufacturer Website; Supplier 2: Digi-Key
footprint CAP_SM0805_YAGEOCC2_N (Capacitor, Yageo CC Class2, SM0805, IPC Medium Density)
pins: 1, 2

## CC0805KRX7R8BB823
designator C?, comment 82nF
CAP 82nF SM0805 X7R 25V YAGEO CC2; Manufacturer Part Number: CC0805KRX7R8BB823; Tolerance (%): 10; Voltage Rating (Volts): 25; Category: Capacitor; Manufacturer: Yageo; Package: 0805; Value: 82nF; Supplier Part Number 1: 644237; Supplier 1: Farnell; ComponentLink1URL: http://www.yageo.com; ComponentLink1Description: Manufacturer Website
footprint CAP_SM0805_YAGEOCC2_N (Capacitor, Yageo CC Class2, SM0805, IPC Medium Density)
pins: 1, 2

## CC0805KRX7R9BB102
designator C?, comment 1nF
CAP 1nF SM0805 X7R 50V YAGEO CC2; Manufacturer Part Number: CC0805KRX7R9BB102; Tolerance (%): 10; Voltage Rating (Volts): 50; Category: Capacitor; Manufacturer: Yageo; Package: 0805; Value: 1nF; Supplier Part Number 1: 3019871; Supplier 1: Farnell; ComponentLink1URL: http://www.yageo.com; ComponentLink1Description: Manufacturer Website; Supplier 2: Digi-Key; Supplier Part Number 2: 311-1127-1-ND; Datasheet: https://datasheet.lcsc.com/lcsc/1810311439_YAGEO-CC0805KRX7R9BB102_C94121.pdf
footprint CAP_SM0805_YAGEOCC2_N (Capacitor, Yageo CC Class2, SM0805, IPC Medium Density)
pins: 1, 2

## CC0805KRX7R9BB103
designator C?, comment 10nF
CAP 10nF SM0805 X7R 50V YAGEO CC2; Manufacturer Part Number: CC0805KRX7R9BB103; Tolerance (%): 10; Voltage Rating (Volts): 50; Category: Capacitor; Manufacturer: Yageo; Package: 0805; Value: 10nF; Supplier Part Number 1: 3019937; Supplier 1: Farnell; ComponentLink1URL: http://www.yageo.com; ComponentLink1Description: Manufacturer Website; Supplier 2: Digi-Key; Supplier Part Number 2: 311-1136-1-ND
footprint CAP_SM0805_YAGEOCC2_N (Capacitor, Yageo CC Class2, SM0805, IPC Medium Density)
pins: 1, 2

## CC0805KRX7R9BB104
designator C?, comment 100nF
CAP 100nF SM0805 X7R 50V YAGEO CC2; Manufacturer Part Number: CC0805KRX7R9BB104; Tolerance (%): 10; Voltage Rating (Volts): 50; Category: Capacitor; Manufacturer: Yageo; Package: 0805; Value: 100nF; Supplier Part Number 1: 3019949; Supplier 1: Farnell; ComponentLink1URL: http://www.yageo.com; ComponentLink1Description: Manufacturer Website; Supplier 2: Digi-Key; Supplier Part Number 2: 311-1140-1-ND
footprint CAP_SM0805_YAGEOCC2_N (Capacitor, Yageo CC Class2, SM0805, IPC Medium Density)
pins: 1, 2

## CC0805KRX7R9BB152
designator C?, comment 1500pF
CAP 1n5F SM0805 X7R 50V YAGEO CC2; Manufacturer Part Number: CC0805KRX7R9BB152; Tolerance (%): 10; Voltage Rating (Volts): 50; Category: Capacitor; Manufacturer: Yageo; Package: 0805; Value: 1500pF; Supplier Part Number 1: 3019883; Supplier 1: Farnell; ComponentLink1URL: http://www.yageo.com; ComponentLink1Description: Manufacturer Website; Supplier 2: Digi-Key; Supplier Part Number 2: 311-1128-1-ND
footprint CAP_SM0805_YAGEOCC2_N (Capacitor, Yageo CC Class2, SM0805, IPC Medium Density)
pins: 1, 2

## CC0805KRX7R9BB153
designator C?, comment 15nF
CAP 15nF SM0805 X7R 50V YAGEO CC2; Manufacturer Part Number: CC0805KRX7R9BB153; Tolerance (%): 10; Voltage Rating (Volts): 50; Category: Capacitor; Manufacturer: Yageo; Package: 0805; Value: 15nF; Supplier Part Number 1: 718658; Supplier 1: Farnell; ComponentLink1URL: http://www.yageo.com; ComponentLink1Description: Manufacturer Website; Supplier 2: Digi-Key; Supplier Part Number 2: 311-1143-1-ND
footprint CAP_SM0805_YAGEOCC2_N (Capacitor, Yageo CC Class2, SM0805, IPC Medium Density)
pins: 1, 2

## CC0805KRX7R9BB222
designator C?, comment 2200pF
CAP 2n2F SM0805 X7R 50V YAGEO CC2; Manufacturer Part Number: CC0805KRX7R9BB222; Tolerance (%): 10; Voltage Rating (Volts): 50; Category: Capacitor; Manufacturer: Yageo; Package: 0805; Value: 2200pF; Supplier Part Number 1: 3019895; Supplier 1: Farnell; ComponentLink1URL: http://www.yageo.com; ComponentLink1Description: Manufacturer Website; Supplier 2: Digi-Key; Supplier Part Number 2: 311-1129-1-ND
footprint CAP_SM0805_YAGEOCC2_N (Capacitor, Yageo CC Class2, SM0805, IPC Medium Density)
pins: 1, 2

## CC0805KRX7R9BB223
designator C?, comment 22nF
CAP 22nF SM0805 X7R 50V YAGEO CC2; Manufacturer Part Number: CC0805KRX7R9BB223; Tolerance (%): 10; Voltage Rating (Volts): 50; Category: Capacitor; Manufacturer: Yageo; Package: 0805; Value: 22nF; Supplier Part Number 1: 718660; Supplier 1: Farnell; ComponentLink1URL: http://www.yageo.com; ComponentLink1Description: Manufacturer Website; Supplier 2: Digi-Key; Supplier Part Number 2: 311-1138-1-ND
footprint CAP_SM0805_YAGEOCC2_N (Capacitor, Yageo CC Class2, SM0805, IPC Medium Density)
pins: 1, 2

## CC0805KRX7R9BB332
designator C?, comment 3300pF
CAP 3n3F SM0805 X7R 50V YAGEO CC2; Manufacturer Part Number: CC0805KRX7R9BB332; Tolerance (%): 10; Voltage Rating (Volts): 50; Category: Capacitor; Manufacturer: Yageo; Package: 0805; Value: 3300pF; Supplier Part Number 1: 3019901; Supplier 1: Farnell; ComponentLink1URL: http://www.yageo.com; ComponentLink1Description: Manufacturer Website; Supplier 2: Digi-Key; Supplier Part Number 2: 311-1131-1-ND
footprint CAP_SM0805_YAGEOCC2_N (Capacitor, Yageo CC Class2, SM0805, IPC Medium Density)
pins: 1, 2

## CC0805KRX7R9BB333
designator C?, comment 33nF
CAP 33nF SM0805 X7R 50V YAGEO CC2; Manufacturer Part Number: CC0805KRX7R9BB333; Tolerance (%): 10; Voltage Rating (Volts): 50; Category: Capacitor; Manufacturer: Yageo; Package: 0805; Value: 33nF; Supplier Part Number 1: 718671; Supplier 1: Farnell; ComponentLink1URL: http://www.yageo.com; ComponentLink1Description: Manufacturer Website; Supplier 2: Digi-Key; Supplier Part Number 2: 311-1374-1-ND; Datasheet: https://datasheet.lcsc.com/lcsc/2304140030_YAGEO-CC0805KRX7R9BB333_C107150.pdf
footprint CAP_SM0805_YAGEOCC2_N (Capacitor, Yageo CC Class2, SM0805, IPC Medium Density)
pins: 1, 2

## CC0805KRX7R9BB472
designator C?, comment 4700pF
CAP 4n7F SM0805 X7R 50V YAGEO CC2; Manufacturer Part Number: CC0805KRX7R9BB472; Tolerance (%): 10; Voltage Rating (Volts): 50; Category: Capacitor; Manufacturer: Yageo; Package: 0805; Value: 4700pF; Supplier Part Number 1: 3019913; Supplier 1: Farnell; ComponentLink1URL: http://www.yageo.com; ComponentLink1Description: Manufacturer Website; Supplier 2: Digi-Key; Supplier Part Number 2: 311-1133-1-ND
footprint CAP_SM0805_YAGEOCC2_N (Capacitor, Yageo CC Class2, SM0805, IPC Medium Density)
pins: 1, 2

## CC0805KRX7R9BB473
designator C?, comment 47nF
CAP 47nF SM0805 X7R 50V YAGEO CC2; Manufacturer Part Number: CC0805KRX7R9BB473; Tolerance (%): 10; Voltage Rating (Volts): 50; Category: Capacitor; Manufacturer: Yageo; Package: 0805; Value: 47nF; Supplier Part Number 1: 718683; Supplier 1: Farnell; ComponentLink1URL: http://www.yageo.com; ComponentLink1Description: Manufacturer Website; Supplier 2: Digi-Key; Supplier Part Number 2: 311-1431-1-ND
footprint CAP_SM0805_YAGEOCC2_N (Capacitor, Yageo CC Class2, SM0805, IPC Medium Density)
pins: 1, 2

## CC0805KRX7R9BB682
designator C?, comment 6800pF
CAP 6n8F SM0805 X7R 50V YAGEO CC2; Manufacturer Part Number: CC0805KRX7R9BB682; Tolerance (%): 10; Voltage Rating (Volts): 50; Category: Capacitor; Manufacturer: Yageo; Package: 0805; Value: 6800pF; Supplier Part Number 1: 3019925; Supplier 1: Farnell; ComponentLink1URL: http://www.yageo.com; ComponentLink1Description: Manufacturer Website; Supplier 2: Digi-Key; Supplier Part Number 2: 311-1135-1-ND
footprint CAP_SM0805_YAGEOCC2_N (Capacitor, Yageo CC Class2, SM0805, IPC Medium Density)
pins: 1, 2

## CC1206KKX7R9BB105
designator C?, comment 1uF
CAP 1uF SM1206 X7R 50V YAGEO CC2; Manufacturer Part Number: CC1206KKX7R9BB105; Tolerance (%): 10; Voltage Rating (Volts): 50; Category: Capacitor; Manufacturer: Yageo; Package: 1206; Value: 1uF; Supplier Part Number 1: 1458913; Supplier 1: Farnell; ComponentLink1URL: http://www.yageo.com; ComponentLink1Description: Manufacturer Website; Supplier 2: Digi-Key
footprint CAP_SM1206_YAGEOCC2_N (Capacitor, Yageo CC Class2, SM1206, IPC Medium Density)
pins: 1, 2

## CC1206KRX7R9BB104
designator C?, comment 100nF
CAP 100nF SM1206 X7R 50V YAGEO CC2; Manufacturer Part Number: CC1206KRX7R9BB104; Tolerance (%): 10; Voltage Rating (Volts): 50; Category: Capacitor; Manufacturer: Yageo; Package: 1206; Value: 100nF; Supplier Part Number 1: 718646; Supplier 1: Farnell; ComponentLink1URL: http://www.yageo.com; ComponentLink1Description: Manufacturer Website; Supplier 2: Digi-Key; Supplier Part Number 2: 311-1179-1-ND
footprint CAP_SM1206_YAGEOCC2_N (Capacitor, Yageo CC Class2, SM1206, IPC Medium Density)
pins: 1, 2

## RC0603FR-070RL
designator R?, comment 0
RES 0 OHMS SM0603 YAGEO RC_L; Manufacturer Part Number: RC0603FR-070RL; Power (Watts): 0.1; Tolerance (%): 1; Category: Resistor; Manufacturer: Yageo; Package: 0603; Resistance (Ohms): 0; Value: 0; Supplier Part Number 1: 9238484; Supplier 1: Farnell; ComponentLink1URL: http://www.yageo.com; ComponentLink1Description: Manufacturer Website; Supplier 2: Digi-Key; Supplier Part Number 2: 311-1.00KHRCT-ND; Datasheet: https://www.yageo.com/upload/media/product/app/datasheet/rchip/pyu-rc_group_51_rohs_l.pdf
footprint RES_SM0603_YAGEORC_N (Resistor, Yageo RC_L, SM0603, IPC Medium Density)
pins: 1, 2

## RC0603FR-071K2L
designator R?, comment 1K2
RES 1K2 SM0603 YAGEO RC_L; Manufacturer Part Number: RC0603FR-071K2L; Power (Watts): 0.1; Resistance (Ohms): 1200; Tolerance (%): 1; Category: Resistor; Manufacturer: Yageo; Package: 0603; Value: 1K2; Supplier Part Number 1: 9238492; Supplier 1: Farnell; ComponentLink1URL: http://www.yageo.com; ComponentLink1Description: Manufacturer Website; Supplier 2: Digi-Key; Supplier Part Number 2: 311-1.20KHRCT-ND
footprint RES_SM0603_YAGEORC_N (Resistor, Yageo RC_L, SM0603, IPC Medium Density)
pins: 1, 2

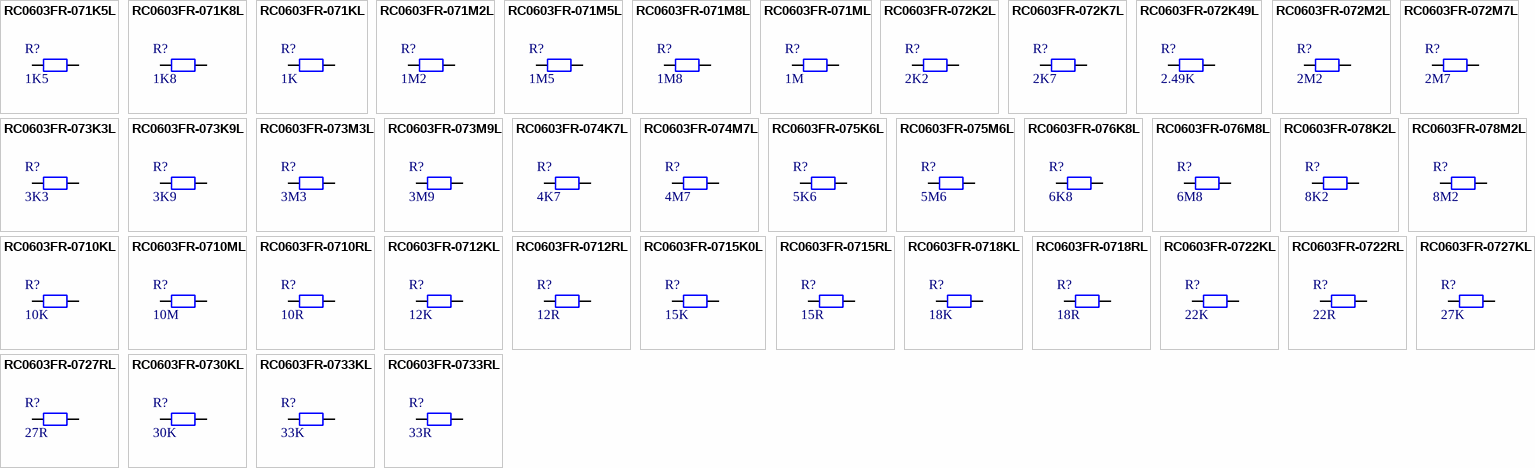
[diagram p2: symbols RC0603FR-071K5L to RC0603FR-0733RL]

## RC0603FR-071K5L
designator R?, comment 1K5
RES 1K5 SM0603 YAGEO RC_L; Manufacturer Part Number: RC0603FR-071K5L; Power (Watts): 0.1; Resistance (Ohms): 1500; Tolerance (%): 1; Category: Resistor; Manufacturer: Yageo; Package: 0603; Value: 1K5; Supplier Part Number 1: 9238506; Supplier 1: Farnell; ComponentLink1URL: http://www.yageo.com; ComponentLink1Description: Manufacturer Website; Supplier 2: Digi-Key; Supplier Part Number 2: 311-1.50KHRCT-ND
footprint RES_SM0603_YAGEORC_N (Resistor, Yageo RC_L, SM0603, IPC Medium Density)
pins: 1, 2

## RC0603FR-071K8L
designator R?, comment 1K8
RES 1K8 SM0603 YAGEO RC_L; Manufacturer Part Number: RC0603FR-071K8L; Power (Watts): 0.1; Resistance (Ohms): 1800; Tolerance (%): 1; Category: Resistor; Manufacturer: Yageo; Package: 0603; Value: 1K8; Supplier Part Number 1: 9238514; Supplier 1: Farnell; ComponentLink1URL: http://www.yageo.com; ComponentLink1Description: Manufacturer Website; Supplier 2: Digi-Key; Supplier Part Number 2: 311-1.80KHRCT-ND
footprint RES_SM0603_YAGEORC_N (Resistor, Yageo RC_L, SM0603, IPC Medium Density)
pins: 1, 2

## RC0603FR-071KL
designator R?, comment 1K
RES 1K SM0603 YAGEO RC_L; Manufacturer Part Number: RC0603FR-071KL; Power (Watts): 0.1; Resistance (Ohms): 1000; Tolerance (%): 1; Category: Resistor; Manufacturer: Yageo; Package: 0603; Value: 1K; Supplier Part Number 1: 9238484; Supplier 1: Farnell; ComponentLink1URL: http://www.yageo.com; ComponentLink1Description: Manufacturer Website; Supplier 2: Digi-Key; Supplier Part Number 2: 311-1.00KHRCT-ND
footprint RES_SM0603_YAGEORC_N (Resistor, Yageo RC_L, SM0603, IPC Medium Density)
pins: 1, 2

## RC0603FR-071M2L
designator R?, comment 1M2
RES 1M2 SM0603 YAGEO RC_L; Manufacturer Part Number: RC0603FR-071M2L; Power (Watts): 0.1; Resistance (Ohms): 1200000; Tolerance (%): 1; Category: Resistor; Manufacturer: Yageo; Package: 0603; Value: 1M2; Supplier Part Number 1: 9238859; Supplier 1: Farnell; ComponentLink1URL: http://www.yageo.com; ComponentLink1Description: Manufacturer Website; Supplier 2: Digi-Key; Supplier Part Number 2: 311-1.20MHRCT-ND
footprint RES_SM0603_YAGEORC_N (Resistor, Yageo RC_L, SM0603, IPC Medium Density)
pins: 1, 2

## RC0603FR-071M5L
designator R?, comment 1M5
RES 1M5 SM0603 YAGEO RC_L; Manufacturer Part Number: RC0603FR-071M5L; Power (Watts): 0.1; Resistance (Ohms): 1500000; Tolerance (%): 1; Category: Resistor; Manufacturer: Yageo; Package: 0603; Value: 1M5; Supplier Part Number 1: 9238867; Supplier 1: Farnell; ComponentLink1URL: http://www.yageo.com; ComponentLink1Description: Manufacturer Website; Supplier 2: Digi-Key; Supplier Part Number 2: 311-1.50MHRCT-ND
footprint RES_SM0603_YAGEORC_N (Resistor, Yageo RC_L, SM0603, IPC Medium Density)
pins: 1, 2

## RC0603FR-071M8L
designator R?, comment 1M8
RES 1M8 SM0603 YAGEO RC_L; Manufacturer Part Number: RC0603FR-071M8L; Power (Watts): 0.1; Resistance (Ohms): 1800000; Tolerance (%): 1; Category: Resistor; Manufacturer: Yageo; Package: 0603; Value: 1M8; Supplier Part Number 1: 9238875; Supplier 1: Farnell; ComponentLink1URL: http://www.yageo.com; ComponentLink1Description: Manufacturer Website; Supplier 2: Digi-Key
footprint RES_SM0603_YAGEORC_N (Resistor, Yageo RC_L, SM0603, IPC Medium Density)
pins: 1, 2

## RC0603FR-071ML
designator R?, comment 1M
RES 1M SM0603 YAGEO RC_L; Manufacturer Part Number: RC0603FR-071ML; Power (Watts): 0.1; Resistance (Ohms): 1000000; Tolerance (%): 1; Category: Resistor; Manufacturer: Yageo; Package: 0603; Value: 1M; Supplier Part Number 1: 9238840; Supplier 1: Farnell; ComponentLink1URL: http://www.yageo.com; ComponentLink1Description: Manufacturer Website; Supplier 2: Digi-Key; Supplier Part Number 2: 311-1.00MHRCT-ND; Datasheet: https://www.yageo.com/upload/media/product/productsearch/datasheet/rchip/PYu-RC_Group_51_RoHS_L_12.pdf
footprint RES_SM0603_YAGEORC_N (Resistor, Yageo RC_L, SM0603, IPC Medium Density)
pins: 1, 2

## RC0603FR-072K2L
designator R?, comment 2K2
RES 2K2 SM0603 YAGEO RC_L; Manufacturer Part Number: RC0603FR-072K2L; Power (Watts): 0.1; Resistance (Ohms): 2200; Tolerance (%): 1; Category: Resistor; Manufacturer: Yageo; Package: 0603; Value: 2K2; Supplier Part Number 1: 9238522; Supplier 1: Farnell; ComponentLink1URL: http://www.yageo.com; ComponentLink1Description: Manufacturer Website; Supplier 2: Digi-Key; Supplier Part Number 2: 311-2.20KHRCT-ND
footprint RES_SM0603_YAGEORC_N (Resistor, Yageo RC_L, SM0603, IPC Medium Density)
pins: 1, 2

## RC0603FR-072K7L
designator R?, comment 2K7
RES 2K7 SM0603 YAGEO RC_L; Manufacturer Part Number: RC0603FR-072K7L; Power (Watts): 0.1; Resistance (Ohms): 2700; Tolerance (%): 1; Category: Resistor; Manufacturer: Yageo; Package: 0603; Value: 2K7; Supplier Part Number 1: 9238530; Supplier 1: Farnell; ComponentLink1URL: http://www.yageo.com; ComponentLink1Description: Manufacturer Website; Supplier 2: Digi-Key; Supplier Part Number 2: 311-2.70KHRCT-ND
footprint RES_SM0603_YAGEORC_N (Resistor, Yageo RC_L, SM0603, IPC Medium Density)
pins: 1, 2

## RC0603FR-072K49L
designator R?, comment 2.49K
RES 2K49 SM0603 YAGEO RC_L; Manufacturer Part Number: RC0603FR-072K49L; Power (Watts): 0.1; Resistance (Ohms): 2490; Tolerance (%): 1; Category: Resistor; Manufacturer: Yageo; Package: 0603; Value: 2.49K; ComponentLink1URL: http://www.yageo.com; ComponentLink1Description: Manufacturer Website; Datasheet: https://www.yageo.com/upload/media/product/app/datasheet/rchip/pyu-rc_group_51_rohs_l.pdf
footprint RES_SM0603_YAGEORC_N (Resistor, Yageo RC_L, SM0603, IPC Medium Density)
pins: 1, 2